# Altium footprint library ESD Protection.PcbLib: 1 footprints
Each footprint in its own frame and in the unit in brackets; x right, y up, seen from the top. Pads: shape width x height; smd on the part's side, far side on the other; paste and mask are expansions set on the pad; w line width, h text height; cw(c..) or ccw(c..) is an arc to the next point about the centre after c.
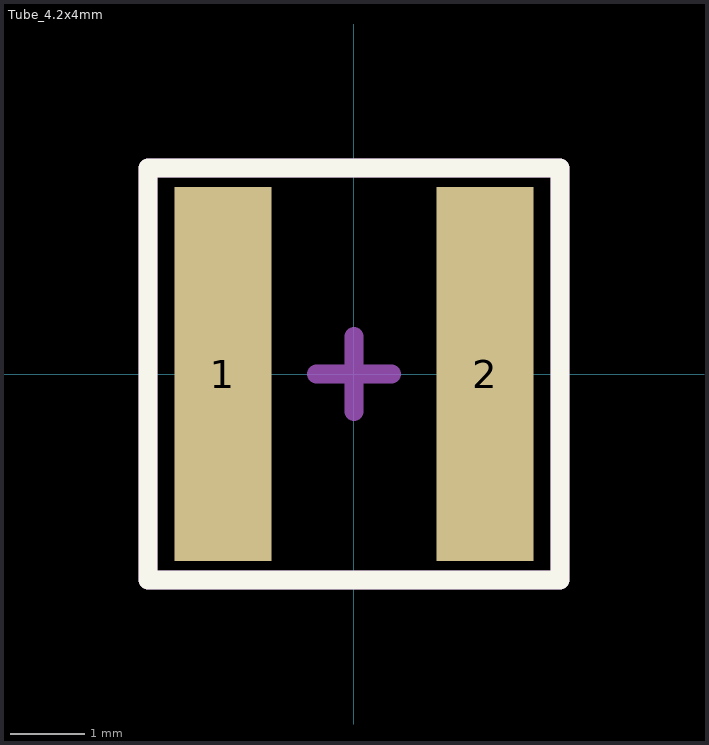
[diagram p0: the footprint, top view; thin cyan lines are the x and y axes]

## Tube_4.2x4mm [mm] "GAS_Discharge_Tube_4.2x4mm"
height 4.2
pads (2):
  rect 1.3x5 smd: 1(-1.75,0) 2(1.75,0)
Top Overlay:
  lines w0.254: -2.75,-2.75 2.75,-2.75 2.75,2.75 -2.75,2.75 -2.75,-2.75
Mechanical 15:
  lines w0.254: -0.5,0 0.5,0 ; 0,-0.5 0,0.5 ; -2.75,-2.75 -2.75,2.75 2.75,2.75 2.75,-2.75 -2.75,-2.75
3D body: height 4.2, standoff 0, extent -1.5,-1.9 1.5,1.9
3D body: height 4.2, standoff 0, extent -2,-2.1 -1.5,2.1
3D body: height 4.2, standoff 0, extent 1.5,-2.1 2,2.1